# EAGLE library part RHF0M003 (library Deegou_IC)
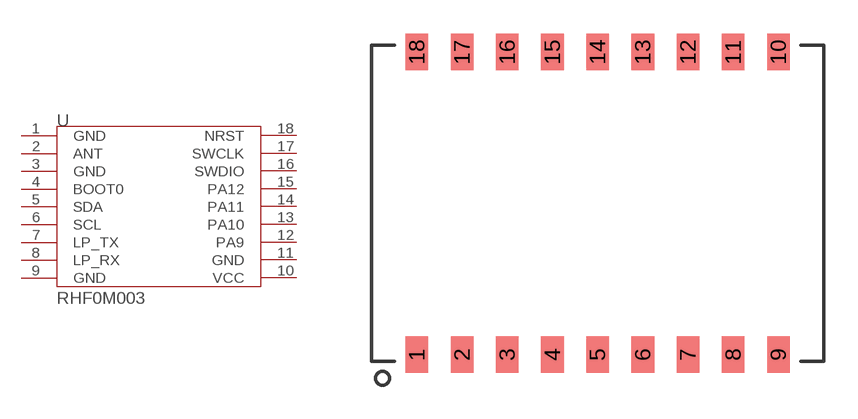
[diagram p163: symbol with the pads of RHF0M003; footprint RHF0M003]

Designator prefix U

## RHF0M003  [RHF0M003]
1  GND
2  ANT
3  GND
4  BOOT0
5  SDA
6  SCL
7  LP_TX
8  LP_RX
9  GND
10  VCC
11  GND
12  PA9
13  PA10
14  PA11
15  PA12
16  SWDIO
17  SWCLK
18  NRST

## Footprint RHF0M003 (pad centres in mm)
smd 1 x 1.6: 1 -8,-6.7; 2 -6,-6.7; 3 -4,-6.7; 4 -2,-6.7; 5 0,-6.7; 6 2,-6.7; 7 4,-6.7; 8 6,-6.7; 9 8,-6.7; 10 8,6.7; 11 6,6.7; 12 4,6.7; 13 2,6.7; 14 0,6.7; 15 -2,6.7; 16 -4,6.7; 17 -6,6.7; 18 -8,6.7